# EAGLE library part ESP8266-01-PORT (library ncue_ee)
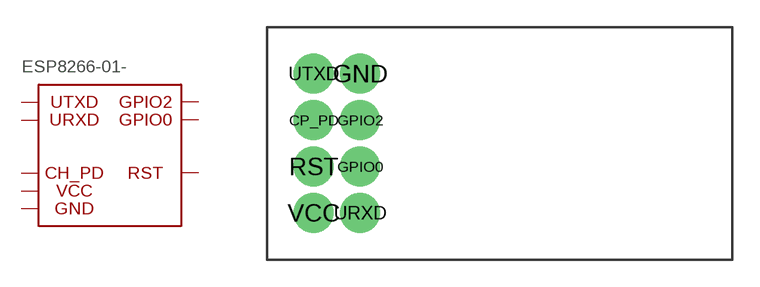
[diagram p9: symbol with the pads of ESP8266-01-PORT; footprint ESP8266-01-PORT]

Designator prefix ESP8266-01-

## ESP8266-01-PORT  [ESP8266-01-PORT]
CP_PD  CH_PD
GND  GND
GPIO0  GPIO0
GPIO2  GPIO2
RST  RST
URXD  URXD
UTXD  UTXD
VCC  VCC

## Footprint ESP8266-01-PORT (pad centres in mm)
drill 1.016 pad 2.184: CP_PD 2.54,-5.08; GND 5.08,-2.54; GPIO0 5.08,-7.62; GPIO2 5.08,-5.08; RST 2.54,-7.62; URXD 5.08,-10.16; UTXD 2.54,-2.54; VCC 2.54,-10.16